# Altium schematic symbol library ESP32.SchLib: 1 symbol
Pins are listed as number, name and electrical type; pins without a type are passive.

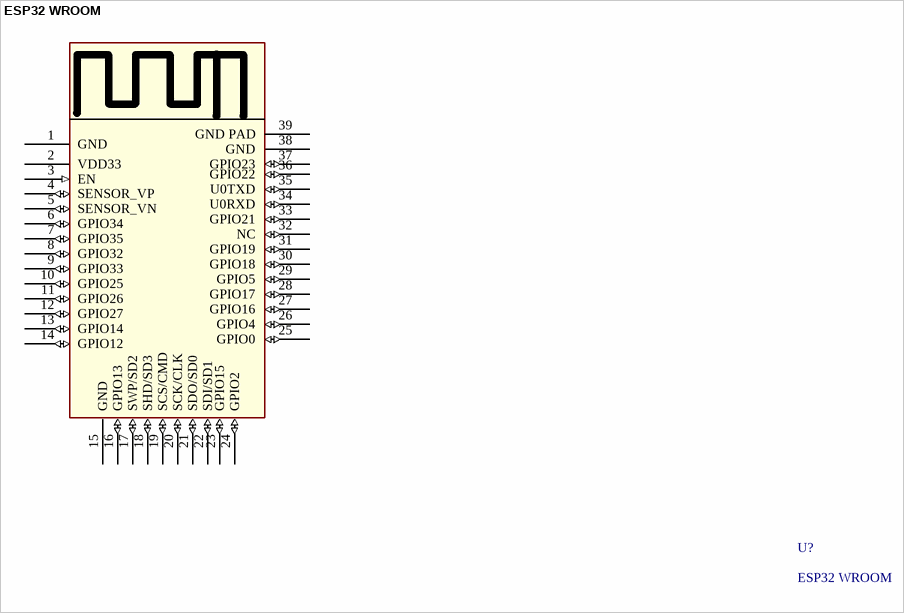
[diagram p0: symbol ESP32 WROOM]

## ESP32 WROOM
designator U?
ESP32 WIFI & BLUETOOTH DUAL; ComponentLink1Description: Datasheet; ComponentLink1URL: https://www.espressif.com/sites/default/files/documentation/esp32-wroom-32_datasheet_en.pdf
footprint ESP32 WROOM32 (ESP32 WIFI & BLUETOOTH DUAL)
pins: 1 GND (power), 2 VDD33 (power) "3V3", 3 EN (in) "Chip-enable signal. Active high.", 4 SENSOR_VP (io) "GPIO36, SENSOR_VP, ADC_H, ADC1_CH0, RTC_GPIO0", 5 SENSOR_VN (io) "GPIO39, SENSOR_VN, ADC1_CH3, ADC_H, RTC_GPIO3", 6 GPIO34 (io) "GPIO34, ADC1_CH6, RTC_GPIO4", 7 GPIO35 (io) "GPIO35, ADC1_CH7, RTC_GPIO5", 8 GPIO32 (io) "GPIO32, XTAL_32K_P (32.768 kHz xtal in), ADC1_CH4, cjeck datasheet", 9 GPIO33 (io) "GPIO33, XTAL_32K_N (32.768 kHz xtal out), ADC1_CH5, check datasheet", 10 GPIO25 (io) "GPIO25, DAC_1, ADC2_CH8, RTC_GPIO6, EMAC_RXD0", 11 GPIO26 (io) "GPIO26, DAC_2, ADC2_CH9, RTC_GPIO7, EMAC_RXD1", 12 GPIO27 (io) "GPIO27, ADC2_CH7, TOUCH7, RTC_GPIO17, EMAC_RX_DV", 13 GPIO14 (io) "GPIO14, ADC2_CH6, TOUCH6, RTC_GPIO16, MTMS, HSPICLK, check datasheet", 14 GPIO12 (io) "GPIO12, ADC2_CH5, TOUCH5, RTC_GPIO15, MTDI, HSPIQ, check datasheet", 15 GND (power), 16 GPIO13 (io) "GPIO13, ADC2_CH4, TOUCH4, RTC_GPIO14, MTCK, HSPID, CHECK DATASHEET", 17 SWP/SD2 (io) "GPIO9, SD_DATA2, SPIHD, HS1_DATA2, U1RXD", 18 SHD/SD3 (io) "GPIO10, SD_DATA3, SPIWP, HS1_DATA3, U1TXD", 19 SCS/CMD (io) "GPIO11, SD_CMD, SPICS0, HS1_CMD, U1RTS", 20 SCK/CLK (io) "GPIO6, SD_CLK, SPICLK, HS1_CLK, U1CTS", 21 SDO/SD0 (io) "GPIO7, SD_DATA0, SPIQ, HS1_DATA0, U2RTS", 22 SDI/SD1 (io) "GPIO8, SD_DATA1, SPID, HS1_DATA1, U2CTS", 23 GPIO15 (io) "GPIO15, ADC2_CH3, TOUCH3, MTDO, HSPICS0, RTC_GPIO13, check datasheet", 24 GPIO2 (io) "GPIO2, ADC2_CH2, TOUCH2, RTC_GPIO12, HSPIWP, HS2_DATA0, check datasheet", 25 GPIO0 (io) "GPIO0, ADC2_CH1, TOUCH1, RTC_GPIO11, CLK_OUT1, check datasheet", 26 GPIO4 (io) "GPIO4, ADC2_CH0, TOUCH0, RTC_GPIO10, HSPIHD, HS2_DATA1, check datasheet", 27 GPIO16 (io) "GPIO16, HS1_DATA4, U2RXD, EMAC_CLK_OUT", 28 GPIO17 (io) "GPIO17, HS1_DATA5, U2TXD, EMAC_CLK_OUT_180", 29 GPIO5 (io) "GPIO5, VSPICS0, HS1_DATA6, EMAC_RX_CLK", 30 GPIO18 (io) "GPIO18, VSPICLK, HS1_DATA7", 31 GPIO19 (io) "GPIO19, VSPIQ, U0CTS, EMAC_TXD0", 32 NC (io) "-", 33 GPIO21 (io) "GPIO21, VSPIHD, EMAC_TX_EN", 34 U0RXD (io) "GPIO3, U0RXD, CLK_OUT2", 35 U0TXD (io) "GPIO1, U0TXD, CLK_OUT3, EMAC_RXD2", 36 GPIO22 (io) "GPIO22, VSPIWP, U0RTS, EMAC_TXD1", 37 GPIO23 (io) "GPIO23, VSPID, HS1_STROBE", 38 GND (power), 39 GND PAD (power)